# Altium integrated library MAX500BCPE.IntLib: 1 symbol
Pins are listed as number, name and electrical type; pins without a type are passive.

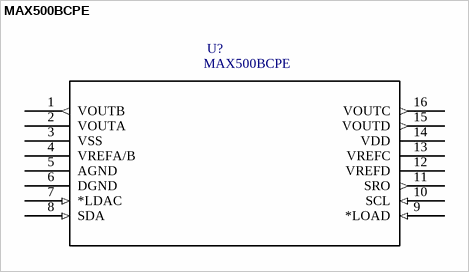
[diagram p0: symbol MAX500BCPE]

## MAX500BCPE
designator U?
D/A converter IC %5BMaxim%5D MAX500BCPE%2B D/A converter IC; MP: MAX500BCPE+; MF: Maxim Integrated; Availability: Bad; Price: 11.78 USD; Package: PDIP-16 Maxim Integrated; Value: *
footprint 21-0043D_16
pins: 1 VOUTB (out), 2 VOUTA, 3 VSS (power), 4 VREFA/B, 5 AGND (power), 6 DGND (power), 7 *LDAC (in), 8 SDA (in), 9 *LOAD (in), 10 SCL (in), 11 SRO (out), 12 VREFD, 13 VREFC, 14 VDD (power), 15 VOUTD (out), 16 VOUTC (out)